# Altium schematic symbol library WM355-Altium.SchLib: 21 symbols
Pins are listed as number, name and electrical type; pins without a type are passive.

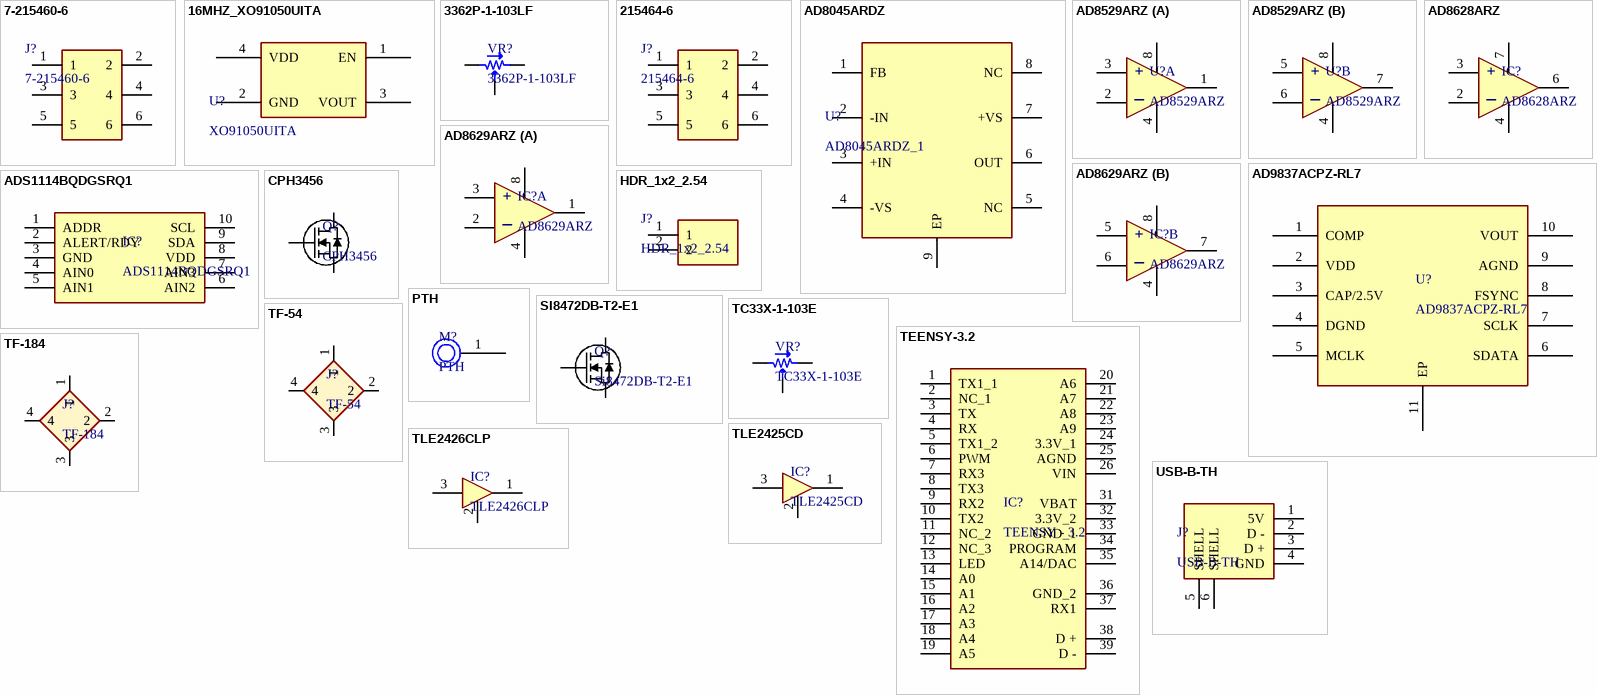
[diagram p0: symbols 7-215460-6 to USB-B-TH]

## 7-215460-6
designator J?
Micro-Match Connector Female 6-Way; Manufacturer_Name: TE Connectivity; Datasheet Link: https://www.te.com/commerce/DocumentDelivery/DDEController?Action=srchrtrv&DocNm=4-1773457-1_050_Micro_MaTch&DocType=Data+Sheet&DocLang=English&PartCntxt=7-215460-6&DocFormat=pdf; Height: 6mm; Manufacturer_Part_Number: 7-215460-6; Mouser Part Number: 571-7-215460-6; Mouser Price/Stock: https://www.mouser.co.uk/ProductDetail/TE-Connectivity/7-215460-6/?qs=XAKIUOoRPe4W4KMZv%2FpWzg%3D%3D; Arrow Part Number: 7-215460-6; Arrow Price/Stock: https://www.arrow.com/en/products/7-215460-6/te-connectivity
footprint 72154606
pins: 1, 2, 3, 4, 5, 6

## 16MHZ_XO91050UITA
designator U?, comment XO91050UITA
16 MHz SMD oscillator; Manufacturer_Name: EUROQUARTZ; Manufacturer_Part_Number: 14.7456MHZ XO91050UITA; Datasheet Link: http://www.farnell.com/datasheets/75391.pdf; Height: 1mm
footprint XO91050UITA24576
pins: 1 EN, 2 GND, 3 VOUT, 4 VDD

## 3362P-1-103LF
designator VR?
TH Trim Potentiometer; Manufacturer_Name: Bourns; Manufacturer_Part_Number: 3362P-1-103LF
footprint 3362P_1
pins: 1 CCW, 2 WIPER, 3 CW

## 215464-6
designator J?
Micro-Match Connector Male 6-Way; Manufacturer_Name: TE Connectivity; Datasheet Link: https://www.te.com/commerce/DocumentDelivery/DDEController?Action=srchrtrv&DocNm=215464&DocType=Customer+Drawing&DocLang=English&DocFormat=pdf&PartCntxt=215464-6; Height: 3.6mm; Manufacturer_Part_Number: 215464-6; Mouser Part Number: 571-215464-6; Mouser Price/Stock: https://www.mouser.co.uk/ProductDetail/TE-Connectivity/215464-6?qs=XAKIUOoRPe5vrTUOsg1hdg%3D%3D; Arrow Part Number: 215464-6; Arrow Price/Stock: https://www.arrow.com/en/products/215464-6/te-connectivity
footprint 2154646
pins: 1, 2, 3, 4, 5, 6

## AD8045ARDZ
designator U?, comment AD8045ARDZ_1
High speed op-amp; Manufacturer_Name: Analog Devices; Datasheet Link: https://datasheet.datasheetarchive.com/originals/distributors/Datasheets-SFU1/DSASFU10003709.pdf; Height: 1.75mm; Manufacturer_Part_Number: AD8045ARDZ; Mouser Part Number: 584-AD8045ARDZ; Mouser Price/Stock: https://www.mouser.co.uk/ProductDetail/Analog-Devices/AD8045ARDZ?qs=%2FtpEQrCGXCwHFOdY8Jjrpw%3D%3D; Arrow Part Number: AD8045ARDZ; Arrow Price/Stock: https://www.arrow.com/en/products/ad8045ardz/analog-devices
footprint SOIC127P600X175-9N
pins: 1 FB, 2 -IN, 3 +IN, 4 -VS, 5 NC, 6 OUT, 7 +VS, 8 NC, 9 EP

## AD8529ARZ
designator U?
Op-amp
footprint AD8529ARZ (Op-amp)
part A pins: 1 OUT A, 2 -IN A, 3 +IN A, 4 V- (power), 8 V+ (power)
part B pins: 4 V- (power), 5 +IN B, 6 -IN B, 7 OUT B, 8 V+ (power)
part A text: +; _
part B text: +; _

## AD8628ARZ
designator IC?
Zero-Drift Rail-to-Rail Op-Amp; Manufacturer_Name: Analog Devices; Datasheet Link: https://www.mouser.in/datasheet/2/609/AD8628_8629_8630-1502219.pdf; Height: 1.75mm; Manufacturer_Part_Number: AD8628ARZ; Mouser Part Number: 584-AD8628ARZ; Mouser Price/Stock: https://www.mouser.co.uk/ProductDetail/Analog-Devices/AD8628ARZ?qs=%2FtpEQrCGXCxYn1FPBdRPTA%3D%3D; Arrow Part Number: AD8628ARZ; Arrow Price/Stock: https://www.arrow.com/en/products/ad8628arz/analog-devices?region=nac
footprint SOIC127P600X175-8N
pins: 2 -IN, 3 +IN, 4 V- (power), 6 OUT, 7 V+ (power)
text: +; _

## AD8629ARZ
designator IC?
Zero-Drift Rail-to-Rail Op-Amp (Dual); Manufacturer_Name: Analog Devices; Datasheet Link: http://componentsearchengine.com/Datasheets/1/AD8629ARZ.pdf; Height: 1.75mm; Manufacturer_Part_Number: AD8629ARZ; Mouser Part Number: 584-AD8629ARZ; Mouser Price/Stock: https://www.mouser.co.uk/ProductDetail/Analog-Devices/AD8629ARZ?qs=%2FtpEQrCGXCz303nvavA3PQ%3D%3D; Arrow Part Number: AD8629ARZ; Arrow Price/Stock: https://www.arrow.com/en/products/ad8629arz/analog-devices?region=nac
footprint SOIC127P600X175-8N
part A pins: 1 OUT A, 2 -IN A, 3 +IN A, 4 V- (power), 8 V+ (power)
part B pins: 4 V- (power), 5 +IN B, 6 -IN B, 7 OUT B, 8 V+ (power)
part A text: +; _
part B text: +; _

## AD9837ACPZ-RL7
designator U?
Programmable waveform generator
footprint AD9837ACPZ-RL7
pins: 1 COMP, 2 VDD, 3 CAP/2.5V, 4 DGND, 5 MCLK, 6 SDATA, 7 SCLK, 8 FSYNC, 9 AGND, 10 VOUT, 11 EP

## ADS1114BQDGSRQ1
designator IC?
I2C 16-Bit ADC; Manufacturer_Name: Texas Instruments; Datasheet Link: http://www.ti.com/lit/gpn/ads1114-q1; Height: 1.1mm; Manufacturer_Part_Number: ADS1114BQDGSRQ1; Mouser Part Number: 595-ADS1114BQDGSRQ1; Mouser Price/Stock: https://www.mouser.co.uk/ProductDetail/Texas-Instruments/ADS1114BQDGSRQ1?qs=34RfhUjJmKcBhGeHOMIUqQ%3D%3D; Arrow Part Number: ADS1114BQDGSRQ1; Arrow Price/Stock: https://www.arrow.com/en/products/ads1114bqdgsrq1/texas-instruments?region=nac
footprint SOP50P490X110-10N
pins: 1 ADDR, 2 ALERT/RDY, 3 GND, 4 AIN0, 5 AIN1, 6 AIN2, 7 AIN3, 8 VDD, 9 SDA, 10 SCL

## CPH3456
designator Q?
N channel MOSFET
footprint CPH3456
pins: 1 G, 2 D, 3 S

## HDR_1x2_2.54
designator J?
0.1" Male Header Connector; Manufacturer_Name: Amphenol; Manufacturer_Part_Number: 10129378-902001BLF; Datasheet Link: https://www.mouser.co.uk/datasheet/2/18/10129378-1530218.pdf; Height: 8.43mm; Mouser Part Number: 649-1012937890201BLF; Mouser Price/Stock: https://www.mouser.co.uk/ProductDetail/Amphenol-FCI/10129378-902001BLF?qs=0lQeLiL1qybv6C1q0T3%2FPw%3D%3D; Arrow Part Number: 10129378-902001BLF; Arrow Price/Stock: https://www.arrow.com/en/products/10129378-902001blf/amphenol-fci?region=nac
footprint HDR_1x2_2.54 (2 Pin 0.1" Header)
pins: 1, 2

## PTH
designator M?
Mounting Hole (Plated, Exposed Pad)
footprint M3-PTH (M3 Mounting Hole (Plated, Exposed Pad))
footprint M2-PTH (M2 Mounting Hole (Plated, Exposed Pad))
pins: 1

## SI8472DB-T2-E1
designator Q?, comment Si8472DB-T2-E1
N channel MOSFET
footprint SI8472DB (N channel MOSFET)
pins: 1 G, 2 D, 3 S

## TC33X-1-103E
designator VR?
SMD Trim Potentiometer; Manufacturer_Name: Bourns; Datasheet Link: https://www.bourns.com/pdfs/TC33.pdf; Manufacturer_Part_Number: TC33X-1-103E; Mouser Part Number: 652-TC33X-1-103E; Mouser Price/Stock: https://www.mouser.co.uk/ProductDetail/Bourns/TC33X-1-103E?qs=4vvWAaIu%2Fq5rtw%252Bjip48Mw%3D%3D; Arrow Part Number: TC33X-1-103E; Arrow Price/Stock: https://www.arrow.com/en/products/tc33x-1-103e/bourns?region=nac
footprint TC33X2201E
pins: 1 CCW, 2 WIPER, 3 CW

## TEENSY-3.2
designator IC?, comment TEENSY - 3.2
ARM Development Board; Manufacturer_Name: PJRC; Manufacturer_Part_Number: TEENSY3.2; Datasheet Link: https://www.pjrc.com/store/teensy32.html; Height: 4.07mm
footprint TEENSY-3.2
pins: 1 TX1_1, 2 NC_1, 3 TX, 4 RX, 5 TX1_2, 6 PWM, 7 RX3, 8 TX3, 9 RX2, 10 TX2, 11 NC_2, 12 NC_3, 13 LED, 14 A0, 15 A1, 16 A2, 17 A3, 18 A4, 19 A5, 20 A6, 21 A7, 22 A8, 23 A9, 24 3.3V_1, 25 AGND, 26 VIN, 31 VBAT, 32 3.3V_2, 33 GND_1, 34 PROGRAM, 35 A14/DAC, 36 GND_2, 37 RX1, 38 D +, 39 D -

## TF-54
designator J?
TF-54 Socket from Fischer Elektronik
footprint TF-54 (TF-54 IC socket from Fischer Elektronik)
pins: 1, 2, 3, 4

## TF-184
designator J?
TF-184 Socket from Fischer Elektronik
footprint TF-184 (TF-184 IC socket from Fischer Elektronik)
pins: 1, 2, 3, 4

## TLE2425CD
designator IC?
Virtual Ground Reference; Manufacturer_Name: Texas Instruments; Datasheet Link: http://www.ti.com/lit/ds/symlink/tle2425.pdf; Height: 1.75mm; Manufacturer_Part_Number: TLE2425CD; Mouser Part Number: 595-TLE2425CD; Mouser Price/Stock: https://www.mouser.co.uk/ProductDetail/Texas-Instruments/TLE2425CD?qs=5BZzbFV4k2uGRCYCE5HEfQ%3D%3D; Arrow Part Number: TLE2425CD; Arrow Price/Stock: https://www.arrow.com/en/products/tle2425cd/texas-instruments
footprint SOIC127P600X175-8N
pins: 1 OUT, 2 COMMON, 3 IN

## TLE2426CLP
designator IC?
Virtual Ground Reference; Manufacturer_Name: Texas Instruments; Manufacturer_Part_Number: TLE2425CD; Datasheet Link: http://www.ti.com/lit/ds/symlink/tle2425.pdf; Height: 1.75mm; Mouser Part Number: 595-TLE2425CD; Mouser Price/Stock: https://www.mouser.co.uk/ProductDetail/Texas-Instruments/TLE2425CD?qs=5BZzbFV4k2uGRCYCE5HEfQ%3D%3D; Arrow Part Number: TLE2425CD; Arrow Price/Stock: https://www.arrow.com/en/products/tle2425cd/texas-instruments
footprint TO-92
pins: 1 OUT, 2 COMMON, 3 IN

## USB-B-TH
designator J?
USB Type B Connector - Thru-Hole; Manufacturer_Name: TE Connectivity; Manufacturer_Part_Number: 292304-1; Datasheet Link: https://www.te.com/commerce/DocumentDelivery/DDEController?Action=srchrtrv&DocNm=7-1773442-0&DocType=Data+Sheet&DocLang=English&PartCntxt=292304-1&DocFormat=pdf; Mouser Part Number: 571-292304-1; Mouser Price/Stock: https://www.mouser.co.uk/ProductDetail/TE-Connectivity/292304-1?qs=G%2F5vCLrg9vwiXeMJMHNpsA%3D%3D; Arrow Part Number: 292304-1; Arrow Price/Stock: https://www.arrow.com/en/products/292304-1/te-connectivity?region=europe
footprint USB-B-TH
pins: 1 5V, 2 D -, 3 D +, 4 GND, 5 SHELL, 6 SHELL